# Altium footprint library TE_2345986-1.PcbLib: 1 footprints
Each footprint in its own frame and in the unit in brackets; x right, y up, seen from the top. Pads: shape width x height; smd on the part's side, far side on the other; paste and mask are expansions set on the pad; w line width, h text height; cw(c..) or ccw(c..) is an arc to the next point about the centre after c.
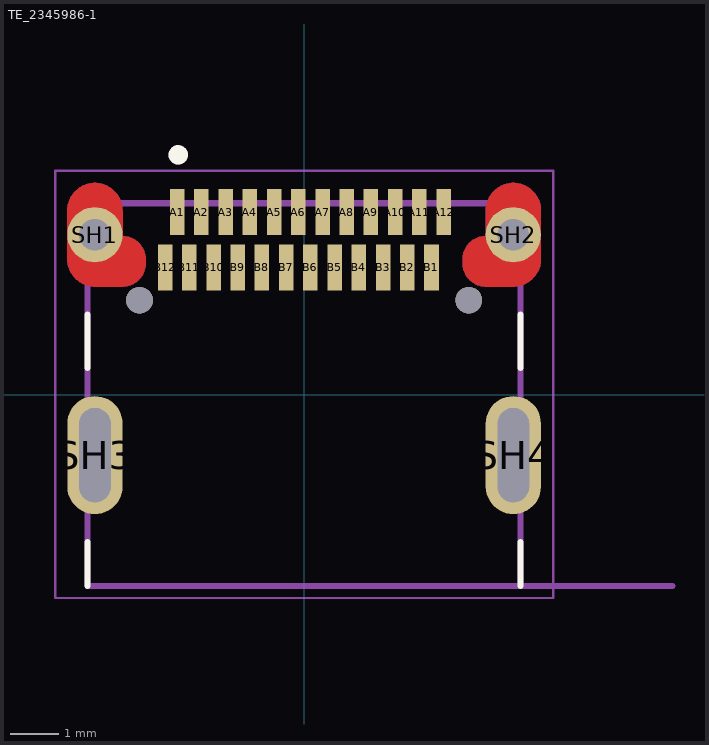
[diagram p0: the footprint, top view; thin cyan lines are the x and y axes]

## TE_2345986-1 [mm]
height 3.16
pads (30):
  rect 0.3x0.95 smd: A1(-2.62,3.765) A2(-2.12,3.765) A3(-1.62,3.765) A4(-1.12,3.765) A5(-0.62,3.765) A6(-0.12,3.765) A7(0.38,3.765) A8(0.88,3.765) A9(1.38,3.765) A10(1.88,3.765) A11(2.38,3.765) A12(2.88,3.765) B1(2.63,2.625) B2(2.13,2.625) B3(1.63,2.625) B4(1.13,2.625) B5(0.63,2.625) B6(0.13,2.625) B7(-0.37,2.625) B8(-0.87,2.625) B9(-1.37,2.625) B10(-1.87,2.625) B11(-2.37,2.625) B12(-2.87,2.625)
  round 1.14 hole 0.65 mask+0: SH1(-4.32,3.3) SH2(4.32,3.3)
  oval 1.14x2.44 hole 0.65 slot 1.95 at 90 deg: SH3(-4.32,-1.25) SH4(4.32,-1.25)
  round 0.55 hole 0.55 unplated: ""(-3.4,1.95) ""(3.4,1.95)
Top Layer:
  region: 155 vertices and 0 holes, not listed, extent 3.272,2.23 4.89,4.37
  region: 155 vertices and 0 holes, not listed, extent -4.89,2.23 -3.272,4.37
Bottom Layer:
  region: 155 vertices and 0 holes, not listed, extent 3.272,2.23 4.89,4.37
  region: 155 vertices and 0 holes, not listed, extent -4.89,2.23 -3.272,4.37
Top Overlay:
  circle w0.2: c-2.6,4.95 r0.1
  lines w0.127: -4.47,-3.95 -4.47,-3.05 ; -4.47,0.55 -4.47,1.65 ; 4.47,-3.95 4.47,-3.05 ; 4.47,0.55 4.47,1.65
Top Solder:
  drawing of 2 lines, arcs and shapes, not listed
Bottom Solder:
  drawing of 2 lines, arcs and shapes, not listed
Mechanical 1:
  lines w0: -4.645,2.8 ccw(c-4.32,2.8) -4.32,2.475 -3.72,2.475 ccw(c-3.72,2.8) -3.395,2.8 ccw(c-3.72,2.8) -3.72,3.125 -3.995,3.125 -3.995,3.8 ccw(c-4.32,3.8) -4.32,4.125 ccw(c-4.32,3.8) -4.645,3.8 -4.645,2.8 ; 3.395,2.8 cw(c3.72,2.8) 3.72,3.125 3.995,3.125 3.995,3.8 cw(c4.32,3.8) 4.32,4.125 cw(c4.32,3.8) 4.645,3.8 4.645,2.8 cw(c4.32,2.8) 4.32,2.475 3.72,2.475 cw(c3.72,2.8) 3.395,2.8
Mechanical 13:
  circle w0.2: c-2.6,4.95 r0.1
  lines w0.127: 7.6,-3.95 4.47,-3.95 ; 4.47,-3.95 -4.47,-3.95 -4.47,3.95 4.47,3.95 4.47,-3.95
  text "PCB Edge" at 5.3,-3.75 h1
Mechanical 15:
  lines w0.05: -5.14,-4.2 -5.14,4.62 5.14,4.62 5.14,-4.2 -5.14,-4.2
3D body "step_temp.STEP": height 1.58, standoff -2.18, extent -4.47,0 4.47,8.1